# Altium schematic symbol library Connectors.SchLib: 49 symbols
Pins are listed as number, name and electrical type; pins without a type are passive.

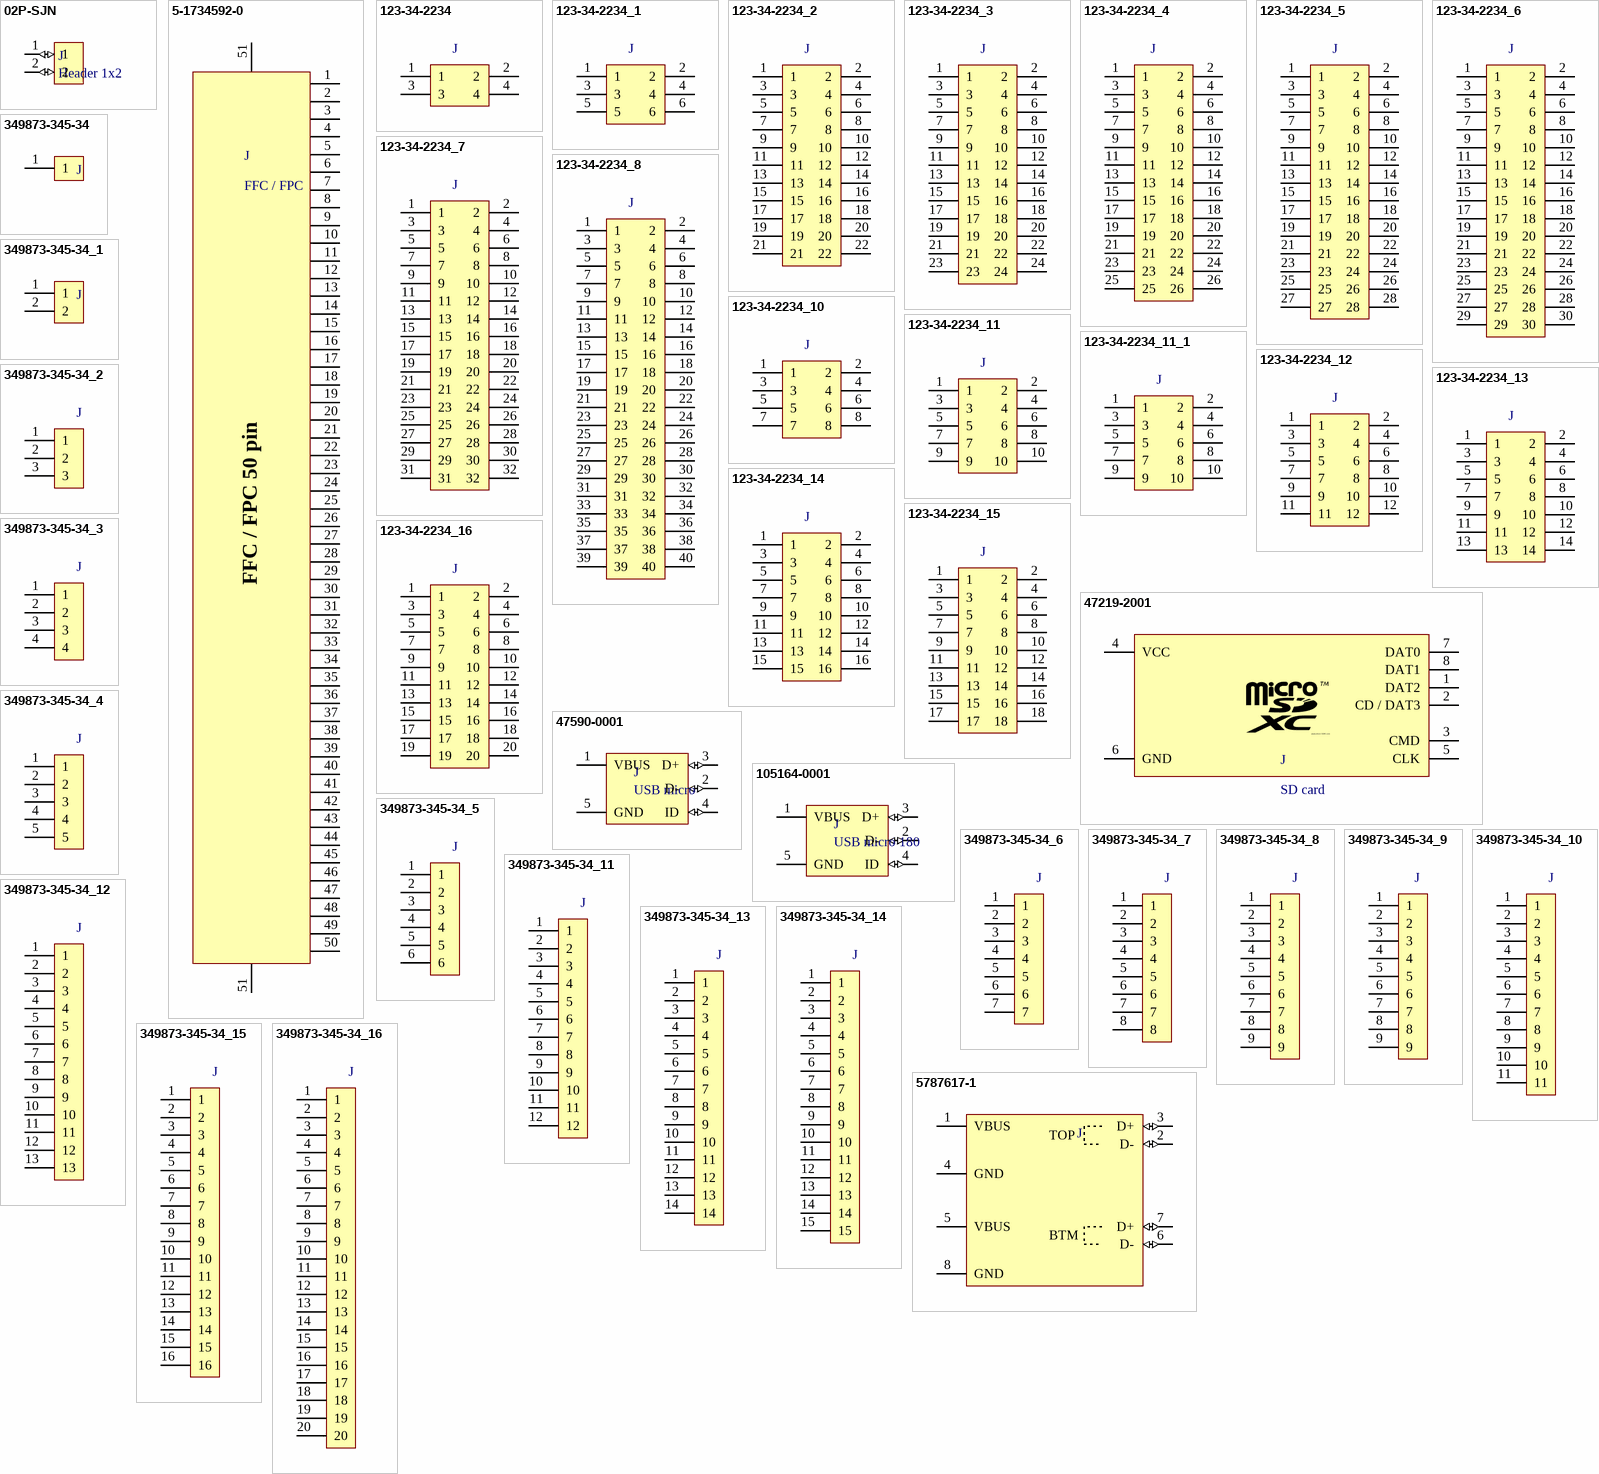
[diagram p0: symbols 02P-SJN to 5787617-1]

## 02P-SJN
designator J, comment Header 1x2
JST 1x2 2mm female
footprint JST 1x2 2mm
pins: 1 (io), 2 (io)

## 5-1734592-0
designator J, comment FFC / FPC
FFC / FPC 50 pins 0.5mm pitch; Supplier 1: Farnell; Supplier Part Number 1: 2528036
footprint 5-1734592-0 (FFC / FPC)
pins: 1 55, 2 56, 3 57, 4 58, 5 59, 6 60, 7 61, 8 62, 9 63, 10 64, 11 65, 12 66, 13 67, 14 68, 15 69, 16 70, 17 71, 18 72, 19 73, 20 74, 21 75, 22 76, 23 77, 24 78, 25 79, 26 80, 27 81, 28 82, 29 83, 30 84, 31 85, 32 86, 33 87, 34 88, 35 89, 36 90, 37 91, 38 92, 39 93, 40 94, 41 95, 42 96, 43 97, 44 98, 45 99, 46 100, 47 101, 48 102, 49 103, 50 104, 51 105, 51 105
text: FFC / FPC 50 pin

## 123-34-2234
designator J
Header 2x2 male 2.54mm
footprint Header 2x2 male
pins: 1, 2, 3, 4

## 123-34-2234_1
designator J
Header 2x3 male 2.54mm
footprint Header 2x3 male
pins: 1, 2, 3, 4, 5, 6

## 123-34-2234_2
designator J
Header 2x11 male 2.54mm
footprint Header 2x11 male
pins: 1, 2, 3, 4, 5, 6, 7, 8, 9, 10, 11, 12, 13, 14, 15, 16, 17, 18, 19, 20, 21, 22

## 123-34-2234_3
designator J
Header 2x12 male 2.54mm
footprint Header 2x12 male
pins: 1, 2, 3, 4, 5, 6, 7, 8, 9, 10, 11, 12, 13, 14, 15, 16, 17, 18, 19, 20, 21, 22, 23, 24

## 123-34-2234_4
designator J
Header 2x13 male 2.54mm
footprint Header 2x13 male
pins: 1, 2, 3, 4, 5, 6, 7, 8, 9, 10, 11, 12, 13, 14, 15, 16, 17, 18, 19, 20, 21, 22, 23, 24, 25, 26

## 123-34-2234_5
designator J
Header 2x14 male 2.54mm
footprint Header 2x14 male
pins: 1, 2, 3, 4, 5, 6, 7, 8, 9, 10, 11, 12, 13, 14, 15, 16, 17, 18, 19, 20, 21, 22, 23, 24, 25, 26, 27, 28

## 123-34-2234_6
designator J
Header 2x15 male 2.54mm
footprint Header 2x15 male
pins: 1, 2, 3, 4, 5, 6, 7, 8, 9, 10, 11, 12, 13, 14, 15, 16, 17, 18, 19, 20, 21, 22, 23, 24, 25, 26, 27, 28, 29, 30

## 123-34-2234_7
designator J
Header 2x16 male 2.54mm
footprint Header 2x16 male
pins: 1, 2, 3, 4, 5, 6, 7, 8, 9, 10, 11, 12, 13, 14, 15, 16, 17, 18, 19, 20, 21, 22, 23, 24, 25, 26, 27, 28, 29, 30, 31, 32

## 123-34-2234_8
designator J
Header 2x20 male 2.54mm
footprint Header 2x20 male
pins: 1, 2, 3, 4, 5, 6, 7, 8, 9, 10, 11, 12, 13, 14, 15, 16, 17, 18, 19, 20, 21, 22, 23, 24, 25, 26, 27, 28, 29, 30, 31, 32, 33, 34, 35, 36, 37, 38, 39, 40

## 123-34-2234_10
designator J
Header 2x4 male 2.54mm
footprint Header 2x4 male
pins: 1, 2, 3, 4, 5, 6, 7, 8

## 123-34-2234_11
designator J
Header 2x5 male 2.54mm
footprint Header 2x5 male
pins: 1, 2, 3, 4, 5, 6, 7, 8, 9, 10

## 123-34-2234_11_1
designator J
Header 2x5 male 1.27mm
footprint Header 2x5 male 1.27mm
pins: 1, 2, 3, 4, 5, 6, 7, 8, 9, 10

## 123-34-2234_12
designator J
Header 2x6 male 2.54mm
footprint Header 2x6 male
pins: 1, 2, 3, 4, 5, 6, 7, 8, 9, 10, 11, 12

## 123-34-2234_13
designator J
Header 2x7 male 2.54mm
footprint Header 2x7 male
pins: 1, 2, 3, 4, 5, 6, 7, 8, 9, 10, 11, 12, 13, 14

## 123-34-2234_14
designator J
Header 2x8 male 2.54mm
footprint Header 2x8 male
pins: 1, 2, 3, 4, 5, 6, 7, 8, 9, 10, 11, 12, 13, 14, 15, 16

## 123-34-2234_15
designator J
Header 2x9 male 2.54mm
footprint Header 2x9 male
pins: 1, 2, 3, 4, 5, 6, 7, 8, 9, 10, 11, 12, 13, 14, 15, 16, 17, 18

## 123-34-2234_16
designator J
Header 2x10 male 2.54mm
footprint Header 2x10 male
pins: 1, 2, 3, 4, 5, 6, 7, 8, 9, 10, 11, 12, 13, 14, 15, 16, 17, 18, 19, 20

## 47219-2001
designator J, comment SD card
SD micro card; Supplier Part Number 1: 2614940; Supplier 1: Farnell
footprint 47219-2001
pins: 1 DAT2, 2 CD / DAT3, 3 CMD, 4 VCC, 5 CLK, 6 GND, 7 DAT0, 8 DAT1

## 47590-0001
designator J, comment USB micro
Supplier Part Number 1: 1568022; Supplier 1: Farnell
footprint USB micro
pins: 1 VBUS, 2 D- (io), 3 D+ (io), 4 ID (io), 5 GND

## 105164-0001
designator J, comment USB micro 180
USB micro 180 deg; Supplier Part Number 1: 2614947; Supplier 1: Farnell
footprint USB Micro 180 deg
pins: 1 VBUS, 2 D- (io), 3 D+ (io), 4 ID (io), 5 GND

## 349873-345-34
designator J
Header 1x1 male 2.54mm
footprint Header 1x1 male
pins: 1

## 349873-345-34_1
designator J
Header 1x2 male 2.54mm
footprint Header 1x2 male
pins: 1, 2

## 349873-345-34_2
designator J
Header 1x3 male 2.54mm
footprint Header 1x3 male
pins: 1, 2, 3

## 349873-345-34_3
designator J
Header 1x4 male 2.54mm
footprint Header 1x4 male
pins: 1, 2, 3, 4

## 349873-345-34_4
designator J
Header 1x5 male 2.54mm
footprint Header 1x5 male
pins: 1, 2, 3, 4, 5

## 349873-345-34_5
designator J
Header 1x6 male 2.54mm
footprint Header 1x6 male
pins: 1, 2, 3, 4, 5, 6

## 349873-345-34_6
designator J
Header 1x7 male 2.54mm
footprint Header 1x7 male
pins: 1, 2, 3, 4, 5, 6, 7

## 349873-345-34_7
designator J
Header 1x8 male 2.54mm
footprint Header 1x8 male
pins: 1, 2, 3, 4, 5, 6, 7, 8

## 349873-345-34_8
designator J
Header 1x9 male 2.54mm
footprint Header 1x9 male
pins: 1, 2, 3, 4, 5, 6, 7, 8, 9

## 349873-345-34_9
designator J
Header 1x10 male 2.54mm
footprint Header 1x10 male
pins: 1, 2, 3, 4, 5, 6, 7, 8, 9

## 349873-345-34_10
designator J
Header 1x11 male 2.54mm
footprint Header 1x11 male
pins: 1, 2, 3, 4, 5, 6, 7, 8, 9, 10, 11

## 349873-345-34_11
designator J
Header 1x12 male 2.54mm
footprint Header 1x12 male
pins: 1, 2, 3, 4, 5, 6, 7, 8, 9, 10, 11, 12

## 349873-345-34_12
designator J
Header 1x13 male 2.54mm
footprint Header 1x14 male
pins: 1, 2, 3, 4, 5, 6, 7, 8, 9, 10, 11, 12, 13

## 349873-345-34_13
designator J
Header 1x14 male 2.54mm
footprint Header 1x14 male
pins: 1, 2, 3, 4, 5, 6, 7, 8, 9, 10, 11, 12, 13, 14

## 349873-345-34_14
designator J
Header 1x15 male 2.54mm
footprint Header 1x15 male
pins: 1, 2, 3, 4, 5, 6, 7, 8, 9, 10, 11, 12, 13, 14, 15

## 349873-345-34_15
designator J
Header 1x16 male 2.54mm
footprint Header 1x16 male
pins: 1, 2, 3, 4, 5, 6, 7, 8, 9, 10, 11, 12, 13, 14, 15, 16

## 349873-345-34_16
designator J
Header 1x20 male 2.54mm
footprint Header 1x20 male
pins: 1, 2, 3, 4, 5, 6, 7, 8, 9, 10, 11, 12, 13, 14, 15, 16, 17, 18, 19, 20

## 5787617-1
designator J
USB A Stacked; Supplier 1: Farnell; Supplier Part Number 1: 1076664
footprint USB A Stacked
pins: 1 VBUS, 2 D- (io), 3 D+ (io), 4 GND, 5 VBUS, 6 D- (io), 7 D+ (io), 8 GND
text: TOP; BTM

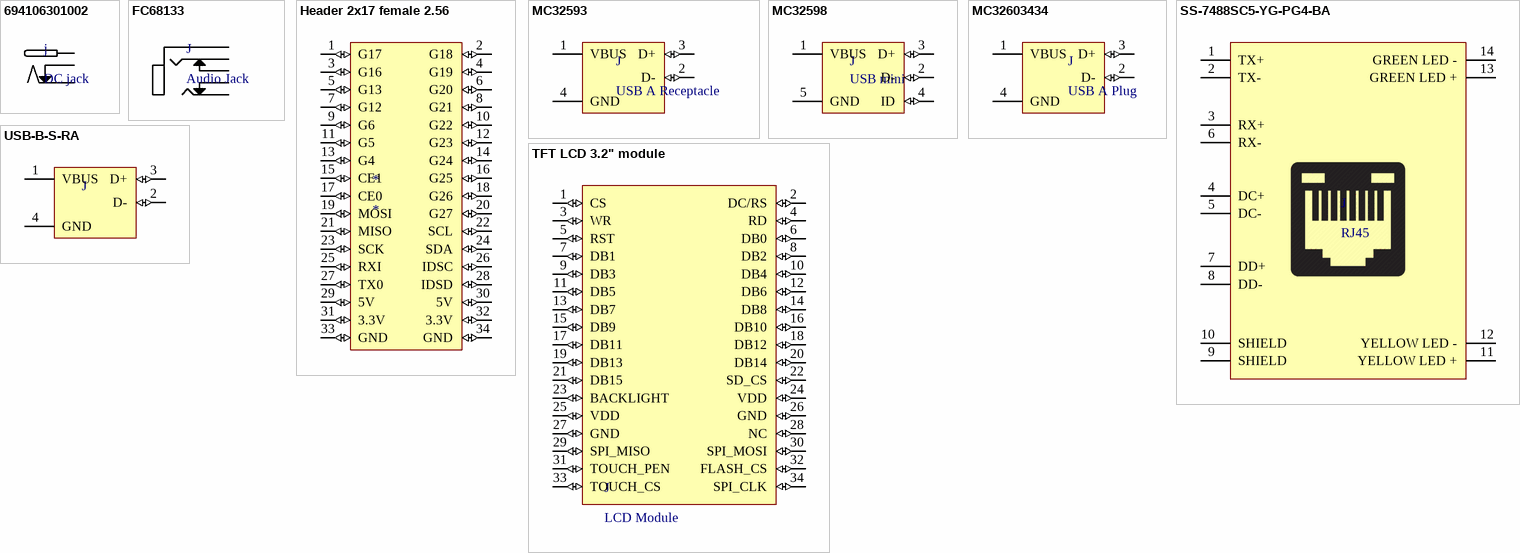
[diagram p1: symbols 694106301002 to USB-B-S-RA]

## 694106301002
designator j, comment DC jack
DC power jack
footprint DC power jack
pins: 1, 2, 3

## FC68133
designator J, comment Audio Jack
Audio jack flat 5 contacts; Supplier Part Number 1: 2518190; Supplier 1: Farnell
footprint Audio jack flat
pins: 1, 2, 3, 4, 5

## Header 2x17 female 2.56
designator *
footprint Header 2x17 female 2.56
pins: 1 G17 (io), 2 G18 (io), 3 G16 (io), 4 G19 (io), 5 G13 (io), 6 G20 (io), 7 G12 (io), 8 G21 (io), 9 G6 (io), 10 G22 (io), 11 G5 (io), 12 G23 (io), 13 G4 (io), 14 G24 (io), 15 CE1 (io), 16 G25 (io), 17 CE0 (io), 18 G26 (io), 19 MOSI (io), 20 G27 (io), 21 MISO (io), 22 SCL (io), 23 SCK (io), 24 SDA (io), 25 RXI (io), 26 IDSC (io), 27 TX0 (io), 28 IDSD (io), 29 5V (io), 30 5V (io), 31 3.3V (io), 32 3.3V (io), 33 GND (io), 34 GND (io)

## MC32593
designator J, comment USB A Receptacle
Supplier Part Number 1: 1696534; Supplier 1: Farnell
footprint USB A Socket
pins: 1 VBUS, 2 D- (io), 3 D+ (io), 4 GND

## MC32598
designator J, comment USB mini
Supplier Part Number 1: 1696539; Supplier 1: Farnell
footprint USB MINI
pins: 1 VBUS, 2 D- (io), 3 D+ (io), 4 ID (io), 5 GND

## MC32603434
designator J, comment USB A Plug
footprint USB A Plug
pins: 1 VBUS, 2 D- (io), 3 D+ (io), 4 GND

## SS-7488SC5-YG-PG4-BA
designator J, comment RJ45
RJ45 jack, 8p8c, Cat 5; Supplier Part Number 1: 2891072; Supplier 1: Farnell
footprint SS-7488SC5-YG-PG4-BA
pins: 1 TX+, 2 TX-, 3 RX+, 4 DC+, 5 DC-, 6 RX-, 7 DD+, 8 DD-, 9 SHIELD, 10 SHIELD, 11 YELLOW LED +, 12 YELLOW LED -, 13 GREEN LED +, 14 GREEN LED -

## TFT LCD 3.2" module
designator J, comment LCD Module
16 bit paralell LCD module
footprint TFT LCD module 3.2"
pins: 1 CS (io), 2 DC/RS (io), 3 WR (io), 4 RD (io), 5 RST (io), 6 DB0 (io), 7 DB1 (io), 8 DB2 (io), 9 DB3 (io), 10 DB4 (io), 11 DB5 (io), 12 DB6 (io), 13 DB7 (io), 14 DB8 (io), 15 DB9 (io), 16 DB10 (io), 17 DB11 (io), 18 DB12 (io), 19 DB13 (io), 20 DB14 (io), 21 DB15 (io), 22 SD_CS (io), 23 BACKLIGHT (io), 24 VDD (io), 25 VDD (io), 26 GND (io), 27 GND (io), 28 NC (io), 29 SPI_MISO (io), 30 SPI_MOSI (io), 31 TOUCH_PEN (io), 32 FLASH_CS (io), 33 TOUCH_CS (io), 34 SPI_CLK (io)

## USB-B-S-RA
designator J
USB B; Supplier 1: Farnell; Supplier Part Number 1: 2112373
footprint USB B
pins: 1 VBUS, 2 D- (io), 3 D+ (io), 4 GND